# EAGLE library part ISO224* (library LM555-Jessica-Ly)
ISO224*: Isolated precision amplifier ISO224A: Low-Grade ISO224B: High-Grade ISO224* Datasheet <https://www.ti.com/lit/ds/symlink/iso224.pdf?HQS=dis-dk-null-digikeymode-dsf-pf-null-wwe&ts=1625423566252&ref_url=https%253A%252F%252Fwww.ti.com%252Fgeneral%252Fdocs%252Fsuppproductinfo.tsp%253FdistId%253D10%2526gotoUrl%253Dhttps%253A%252F%252Fwww.ti.com%252Flit%252Fgpn%252Fiso224>
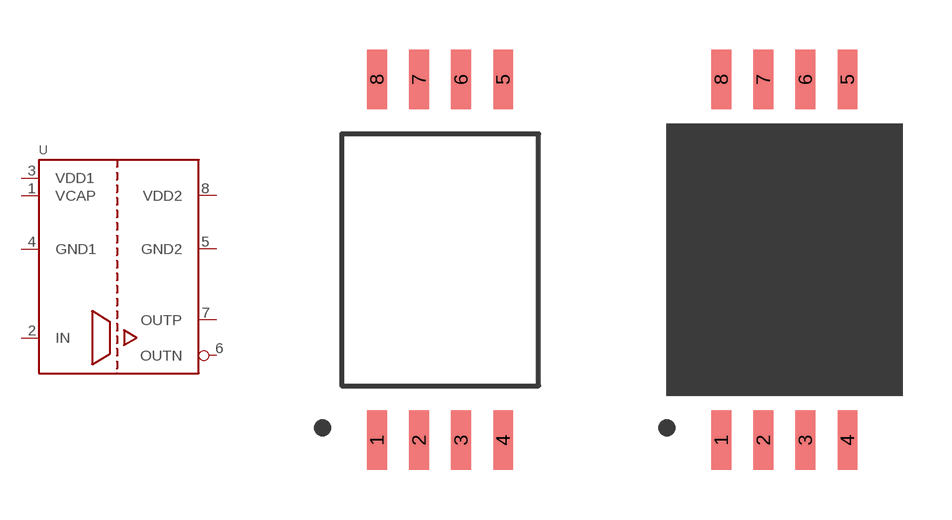
[diagram p23: symbol with the pads of SOIC-08(WIDE,0.295"); footprints SOIC-08(WIDE,0.295"), SOIC-08(WIDE,0.295")-AIRGAP]

Designator prefix U

## ISO224A (DKPN: 296-52315-1-ND; MANUFACTURER: Texas Instruments; MOPN: 595-ISO224ADWVR; MPN: ISO224ADWVR), ISO224B (DKPN: 296-52316-1-ND; MANUFACTURER: Texas Instruments; MOPN: 595-ISO224BDWVR; MPN: ISO224BDWVR)  [SOIC-08(WIDE,0.295")]
1  VCAP  pas
2  IN  in
3  VDD1  pwr
4  GND1  pwr
5  GND2  pwr
6  OUTN  out
7  OUTP  out
8  VDD2  pwr

## ISO224A_AIRGAP (DKPN: 296-52315-1-ND; MANUFACTURER: Texas Instruments; MOPN: 595-ISO224ADWVR; MPN: ISO224ADWVR), ISO224B_AIRGAP (DKPN: 296-52316-1-ND; MANUFACTURER: Texas Instruments; MOPN: 595-ISO224BDWVR; MPN: ISO224BDWVR)  [SOIC-08(WIDE,0.295")-AIRGAP]
Pads as for SOIC-08(WIDE,0.295")

## Footprint SOIC-08(WIDE,0.295") (pad centres in mm)
SOIC-DWV0008A Datasheet <https://www.ti.com/lit/ml/mpds382b/mpds382b.pdf?ts=1625697704470&ref_url=https%253A%252F%252Fwww.bing.com%252F>
smd 0.6 x 1.8: 1 -1.905,-5.45; 2 -0.635,-5.45; 3 0.635,-5.45; 4 1.905,-5.45; 5 1.905,5.45; 6 0.635,5.45; 7 -0.635,5.45; 8 -1.905,5.45

## Footprint SOIC-08(WIDE,0.295")-AIRGAP (pad centres in mm)
SOIC-DWV0008A Datasheet <https://www.ti.com/lit/ml/mpds382b/mpds382b.pdf?ts=1625697704470&ref_url=https%253A%252F%252Fwww.bing.com%252F>
smd 0.6 x 1.8: 1 -1.905,-5.45; 2 -0.635,-5.45; 3 0.635,-5.45; 4 1.905,-5.45; 5 1.905,5.45; 6 0.635,5.45; 7 -0.635,5.45; 8 -1.905,5.45